# Altium schematic symbol library 551-0207-004F.SchLib: 1 symbol
Pins are listed as number, name and electrical type; pins without a type are passive.

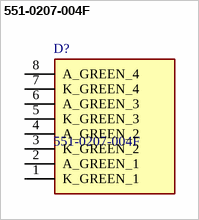
[diagram p0: symbol 551-0207-004F]

## 551-0207-004F
designator D?
Green Right Angle PCB LED Indicator, 4 LEDs, Through Hole 2.1 V; Manufacturer_Name: Dialight; Geometry.Height: 7.11mm; Mouser Part Number: *; Mouser Price/Stock: *; Manufacturer_Part_Number: 551-0207-004F; Datasheet Link: *
footprint 5510207004F
pins: 1 K_GREEN_1, 2 A_GREEN_1, 3 K_GREEN_2, 4 A_GREEN_2, 5 K_GREEN_3, 6 A_GREEN_3, 7 K_GREEN_4, 8 A_GREEN_4